# Altium schematic symbol library AL8860QMP-13.SchLib: 1 symbol
Pins are listed as number, name and electrical type; pins without a type are passive.

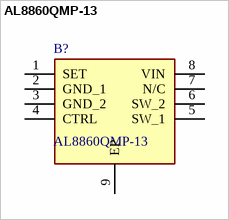
[diagram p0: symbol AL8860QMP-13]

## AL8860QMP-13
designator B?
LED Lighting Drivers LED MV Int Switch; Manufacturer_Name: Diodes Incorporated; Geometry.Height: 1.1mm; Manufacturer_Part_Number: AL8860QMP-13; Mouser Part Number: 621-AL8860QMP-13; Mouser Price/Stock: https://www.mouser.co.uk/ProductDetail/Diodes-Incorporated/AL8860QMP-13?qs=EBDBlbfErPyyWdIw%2F9tthg%3D%3D; Arrow Part Number: AL8860QMP-13; Arrow Price/Stock: https://www.arrow.com/en/products/al8860qmp-13/diodes-incorporated?region=europe; Datasheet Link: https://www.diodes.com/assets/Datasheets/AL8860Q.pdf
footprint SOP65P490X110-9N
pins: 1 SET, 2 GND_1, 3 GND_2, 4 CTRL, 5 SW_1, 6 SW_2, 7 N/C, 8 VIN, 9 EP